# Altium integrated library Holtek Semiconductor Memory.IntLib: 31 symbols
Pins are listed as number, name and electrical type; pins without a type are passive.

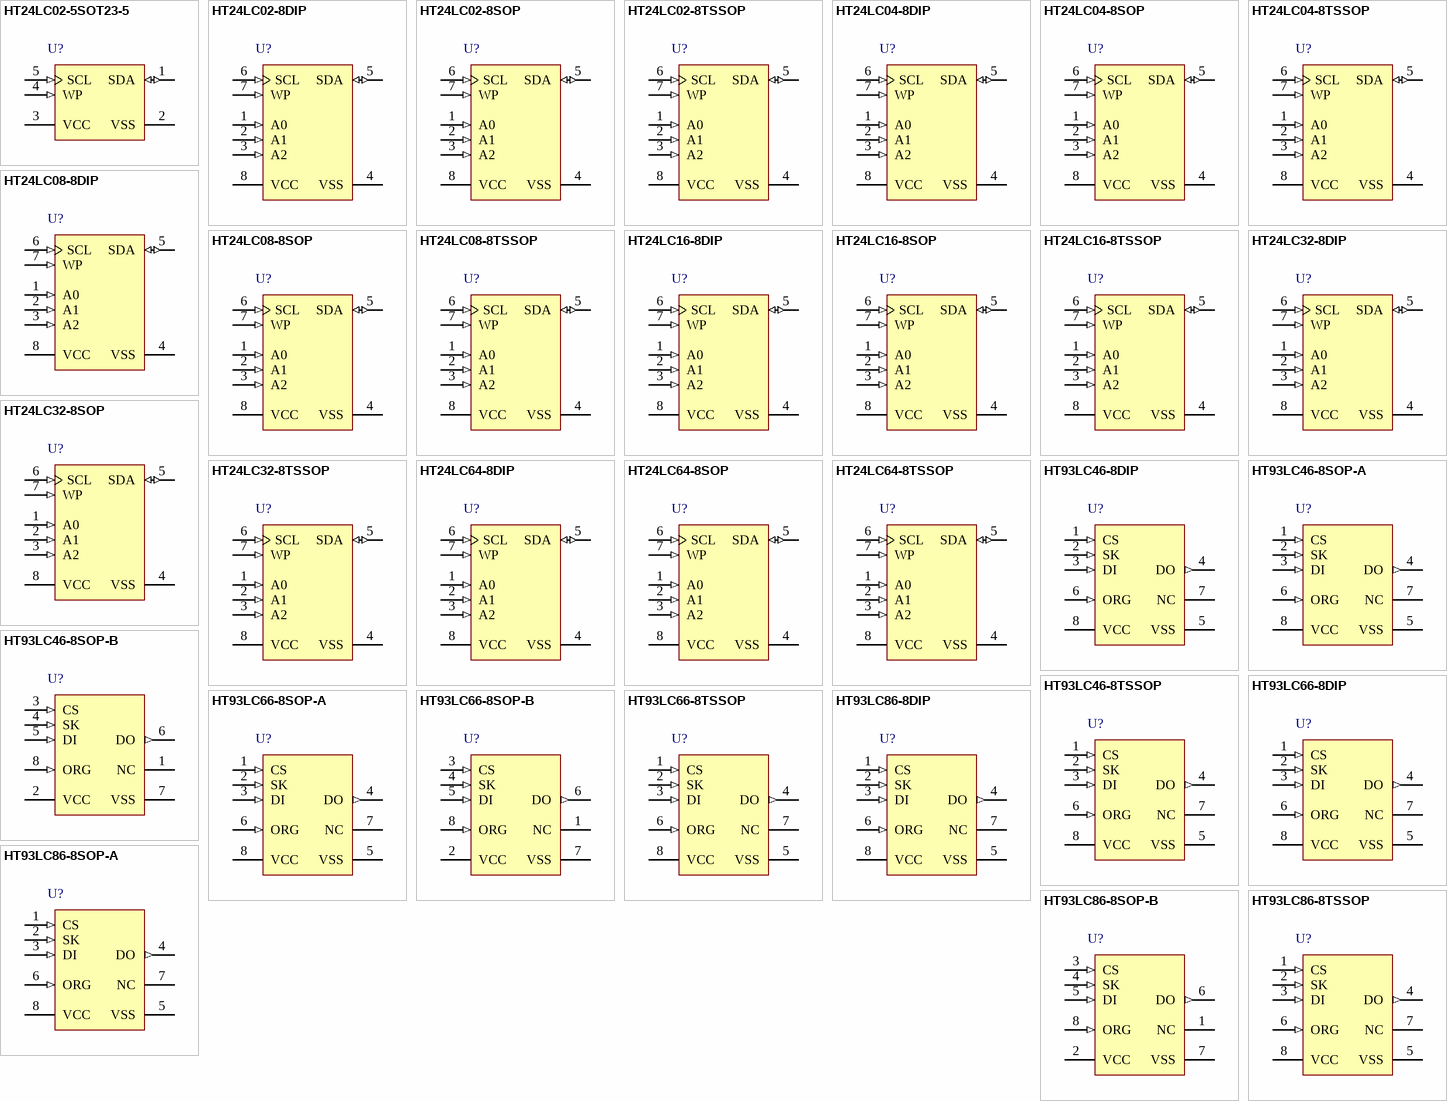
[diagram p0: symbols HT24LC02-5SOT23-5 to HT93LC86-8TSSOP]

## HT24LC02-5SOT23-5
designator U?
CMOS 2K 2-Wire Serial EEPROM, 5-Pin SOT23; DatasheetVersion: Rev1.7, May-2010; PackageVersion: 25/05/2010; PackageReference: SOT23-5; PackageDescription: 5-Pin SOT-23 Package 0.95 mm Pitch, 2.8 mm Lead Span; Code_IPC: SOT23-5; ComponentLink1Description: Manufacturer URL; ComponentLink1URL: http://www.holtek.com/; ComponentLink2Description: Datasheet; ComponentLink2URL: http://www.holtek.com/pdf/memory/24lc02v170.pdf; ComponentLink3Description: Package Specification; ComponentLink3URL: http://www.holtek.com/english/literature/package.pdf
footprint SOT23-5_N (SOT23, 5-Leads, Body 2.9x1.6mm, Pitch 0.95mm, Lead Span 2.8mm, IPC Medium Density)
footprint SOT23-5_L (SOT23, 5-Leads, Body 2.9x1.6mm, Pitch 0.95mm, Lead Span 2.8mm, IPC High Density)
footprint SOT23-5_M (SOT23, 5-Leads, Body 2.9x1.6mm, Pitch 0.95mm, Lead Span 2.8mm, IPC Low Density)
pins: 1 SDA (io), 2 VSS (power), 3 VCC (power), 4 WP (in), 5 SCL (in)

## HT24LC02-8DIP
designator U?
CMOS 2K 2-Wire Serial EEPROM, 8-Pin DIP; DatasheetVersion: Rev1.7, May-2010; PackageVersion: 25/05/2010; PackageReference: 8DIP; PackageDescription: 8-Pin, Dual In-line Package, 300mil Width, Pitch 2.54 mm; ComponentLink1Description: Manufacturer URL; ComponentLink1URL: http://www.holtek.com/; ComponentLink2Description: Datasheet; ComponentLink2URL: http://www.holtek.com/pdf/memory/24lc02v170.pdf; ComponentLink3Description: Package Specification; ComponentLink3URL: http://www.holtek.com/english/literature/package.pdf
footprint 8DIP (DIP, 8-Leads, Row Spacing 7.62mm, Pitch 2.54mm, Body 9.3x6.4mm)
pins: 1 A0 (in), 2 A1 (in), 3 A2 (in), 4 VSS (power), 5 SDA (io), 6 SCL (in), 7 WP (in), 8 VCC (power)

## HT24LC02-8SOP
designator U?
CMOS 2K 2-Wire Serial EEPROM, 8-Pin SOP; DatasheetVersion: Rev1.7, May-2010; PackageVersion: 25/05/2010; PackageReference: 8SOP; PackageDescription: 8-Pin Small Outline Package, 150mil Wide, 1.27 mm Pitch; Code_JEDEC: MS-012; Code_IPC: SOIC127P600-8; ComponentLink1Description: Manufacturer URL; ComponentLink1URL: http://www.holtek.com/; ComponentLink2Description: Datasheet; ComponentLink2URL: http://www.holtek.com/pdf/memory/24lc02v170.pdf; ComponentLink3Description: Package Specification; ComponentLink3URL: http://www.holtek.com/english/literature/package.pdf
footprint 8SOP_N (SOIC, 8-Leads, Body 4.9x3.9mm, Pitch 1.27mm, IPC Medium Density)
footprint 8SOP_L (SOIC, 8-Leads, Body 4.9x3.9mm, Pitch 1.27mm, IPC High Density)
footprint 8SOP_M (SOIC, 8-Leads, Body 4.9x3.9mm, Pitch 1.27mm, IPC Low Density)
pins: 1 A0 (in), 2 A1 (in), 3 A2 (in), 4 VSS (power), 5 SDA (io), 6 SCL (in), 7 WP (in), 8 VCC (power)

## HT24LC02-8TSSOP
designator U?
CMOS 2K 2-Wire Serial EEPROM, 8-Pin TSSOP; DatasheetVersion: Rev1.7, May-2010; PackageVersion: 25/05/2010; PackageReference: 8TSSOP; PackageDescription: 8-Pin Thin Shrink Small Outline Package 0.65 mm Pitch; ComponentLink1Description: Manufacturer URL; ComponentLink1URL: http://www.holtek.com/; ComponentLink2Description: Datasheet; ComponentLink2URL: http://www.holtek.com/pdf/memory/24lc02v170.pdf; ComponentLink3Description: Package Specification; ComponentLink3URL: http://www.holtek.com/english/literature/package.pdf
footprint 8TSSOP_N (TSOP, 8-Leads, Body 3x4.4mm, Pitch 0.65mm, IPC Medium Density)
footprint 8TSSOP_L (TSOP, 8-Leads, Body 3x4.4mm, Pitch 0.65mm, IPC High Density)
footprint 8TSSOP_M (TSOP, 8-Leads, Body 3x4.4mm, Pitch 0.65mm, IPC Low Density)
pins: 1 A0 (in), 2 A1 (in), 3 A2 (in), 4 VSS (power), 5 SDA (io), 6 SCL (in), 7 WP (in), 8 VCC (power)

## HT24LC04-8DIP
designator U?
CMOS 4K 2-Wire Serial EEPROM, 8-Pin DIP; DatasheetVersion: Rev1.7, June-2010; PackageVersion: 25/05/2010; PackageReference: 8DIP; PackageDescription: 8-Pin, Dual In-line Package, 300mil Width, Pitch 2.54 mm; ComponentLink1Description: Manufacturer URL; ComponentLink1URL: http://www.holtek.com/; ComponentLink2Description: Datasheet; ComponentLink2URL: http://www.holtek.com/pdf/memory/24lc04v170.pdf; ComponentLink3Description: Package Specification; ComponentLink3URL: http://www.holtek.com/english/literature/package.pdf
footprint 8DIP (DIP, 8-Leads, Row Spacing 7.62mm, Pitch 2.54mm, Body 9.3x6.4mm)
pins: 1 A0 (in), 2 A1 (in), 3 A2 (in), 4 VSS (power), 5 SDA (io), 6 SCL (in), 7 WP (in), 8 VCC (power)

## HT24LC04-8SOP
designator U?
CMOS 4K 2-Wire Serial EEPROM, 8-Pin SOP; DatasheetVersion: Rev1.7, June-2010; PackageVersion: 25/05/2010; PackageReference: 8SOP; PackageDescription: 8-Pin Small Outline Package, 150mil Wide, 1.27 mm Pitch; Code_JEDEC: MS-012; Code_IPC: SOIC127P600-8; ComponentLink1Description: Manufacturer URL; ComponentLink1URL: http://www.holtek.com/; ComponentLink2Description: Datasheet; ComponentLink2URL: http://www.holtek.com/pdf/memory/24lc04v170.pdf; ComponentLink3Description: Package Specification; ComponentLink3URL: http://www.holtek.com/english/literature/package.pdf
footprint 8SOP_N (SOIC, 8-Leads, Body 4.9x3.9mm, Pitch 1.27mm, IPC Medium Density)
footprint 8SOP_L (SOIC, 8-Leads, Body 4.9x3.9mm, Pitch 1.27mm, IPC High Density)
footprint 8SOP_M (SOIC, 8-Leads, Body 4.9x3.9mm, Pitch 1.27mm, IPC Low Density)
pins: 1 A0 (in), 2 A1 (in), 3 A2 (in), 4 VSS (power), 5 SDA (io), 6 SCL (in), 7 WP (in), 8 VCC (power)

## HT24LC04-8TSSOP
designator U?
CMOS 4K 2-Wire Serial EEPROM, 8-Pin TSSOP; DatasheetVersion: Rev1.7, June-2010; PackageVersion: 25/05/2010; PackageReference: 8TSSOP; PackageDescription: 8-Pin Thin Shrink Small Outline Package 0.65 mm Pitch; ComponentLink1Description: Manufacturer URL; ComponentLink1URL: http://www.holtek.com/; ComponentLink2Description: Datasheet; ComponentLink2URL: http://www.holtek.com/pdf/memory/24lc04v170.pdf; ComponentLink3Description: Package Specification; ComponentLink3URL: http://www.holtek.com/english/literature/package.pdf
footprint 8TSSOP_N (TSOP, 8-Leads, Body 3x4.4mm, Pitch 0.65mm, IPC Medium Density)
footprint 8TSSOP_L (TSOP, 8-Leads, Body 3x4.4mm, Pitch 0.65mm, IPC High Density)
footprint 8TSSOP_M (TSOP, 8-Leads, Body 3x4.4mm, Pitch 0.65mm, IPC Low Density)
pins: 1 A0 (in), 2 A1 (in), 3 A2 (in), 4 VSS (power), 5 SDA (io), 6 SCL (in), 7 WP (in), 8 VCC (power)

## HT24LC08-8DIP
designator U?
CMOS 8K 2-Wire Serial EEPROM, 8-Pin DIP; DatasheetVersion: Rev1.7, June-2010; PackageVersion: 25/05/2010; PackageReference: 8DIP; PackageDescription: 8-Pin, Dual In-line Package, 300mil Width, Pitch 2.54 mm; ComponentLink1Description: Manufacturer URL; ComponentLink1URL: http://www.holtek.com/; ComponentLink2Description: Datasheet; ComponentLink2URL: http://www.holtek.com/pdf/memory/24lc08v170.pdf; ComponentLink3Description: Package Specification; ComponentLink3URL: http://www.holtek.com/english/literature/package.pdf
footprint 8DIP (DIP, 8-Leads, Row Spacing 7.62mm, Pitch 2.54mm, Body 9.3x6.4mm)
pins: 1 A0 (in), 2 A1 (in), 3 A2 (in), 4 VSS (power), 5 SDA (io), 6 SCL (in), 7 WP (in), 8 VCC (power)

## HT24LC08-8SOP
designator U?
CMOS 8K 2-Wire Serial EEPROM, 8-Pin SOP; DatasheetVersion: Rev1.7, June-2010; PackageVersion: 25/05/2010; PackageReference: 8SOP; PackageDescription: 8-Pin Small Outline Package, 150mil Wide, 1.27 mm Pitch; Code_JEDEC: MS-012; Code_IPC: SOIC127P600-8; ComponentLink1Description: Manufacturer URL; ComponentLink1URL: http://www.holtek.com/; ComponentLink2Description: Datasheet; ComponentLink2URL: http://www.holtek.com/pdf/memory/24lc08v170.pdf; ComponentLink3Description: Package Specification; ComponentLink3URL: http://www.holtek.com/english/literature/package.pdf
footprint 8SOP_N (SOIC, 8-Leads, Body 4.9x3.9mm, Pitch 1.27mm, IPC Medium Density)
footprint 8SOP_L (SOIC, 8-Leads, Body 4.9x3.9mm, Pitch 1.27mm, IPC High Density)
footprint 8SOP_M (SOIC, 8-Leads, Body 4.9x3.9mm, Pitch 1.27mm, IPC Low Density)
pins: 1 A0 (in), 2 A1 (in), 3 A2 (in), 4 VSS (power), 5 SDA (io), 6 SCL (in), 7 WP (in), 8 VCC (power)

## HT24LC08-8TSSOP
designator U?
CMOS 8K 2-Wire Serial EEPROM, 8-Pin TSSOP; DatasheetVersion: Rev1.7, June-2010; PackageVersion: 25/05/2010; PackageReference: 8TSSOP; PackageDescription: 8-Pin Thin Shrink Small Outline Package 0.65 mm Pitch; ComponentLink1Description: Manufacturer URL; ComponentLink1URL: http://www.holtek.com/; ComponentLink2Description: Datasheet; ComponentLink2URL: http://www.holtek.com/pdf/memory/24lc08v170.pdf; ComponentLink3Description: Package Specification; ComponentLink3URL: http://www.holtek.com/english/literature/package.pdf
footprint 8TSSOP_N (TSOP, 8-Leads, Body 3x4.4mm, Pitch 0.65mm, IPC Medium Density)
footprint 8TSSOP_L (TSOP, 8-Leads, Body 3x4.4mm, Pitch 0.65mm, IPC High Density)
footprint 8TSSOP_M (TSOP, 8-Leads, Body 3x4.4mm, Pitch 0.65mm, IPC Low Density)
pins: 1 A0 (in), 2 A1 (in), 3 A2 (in), 4 VSS (power), 5 SDA (io), 6 SCL (in), 7 WP (in), 8 VCC (power)

## HT24LC16-8DIP
designator U?
CMOS 16K 2-Wire Serial EEPROM, 8-Pin DIP; DatasheetVersion: Rev1.6, June-2010; PackageVersion: 25/05/2010; PackageReference: 8DIP; PackageDescription: 8-Pin, Dual In-line Package, 300mil Width, Pitch 2.54 mm; ComponentLink1Description: Manufacturer URL; ComponentLink1URL: http://www.holtek.com/; ComponentLink2Description: Datasheet; ComponentLink2URL: http://www.holtek.com/pdf/memory/24lc16v160.pdf; ComponentLink3Description: Package Specification; ComponentLink3URL: http://www.holtek.com/english/literature/package.pdf
footprint 8DIP (DIP, 8-Leads, Row Spacing 7.62mm, Pitch 2.54mm, Body 9.3x6.4mm)
pins: 1 A0 (in), 2 A1 (in), 3 A2 (in), 4 VSS (power), 5 SDA (io), 6 SCL (in), 7 WP (in), 8 VCC (power)

## HT24LC16-8SOP
designator U?
CMOS 16K 2-Wire Serial EEPROM, 8-Pin SOP; DatasheetVersion: Rev1.6, June-2010; PackageVersion: 25/05/2010; PackageReference: 8SOP; PackageDescription: 8-Pin Small Outline Package, 150mil Wide, 1.27 mm Pitch; Code_JEDEC: MS-012; Code_IPC: SOIC127P600-8; ComponentLink1Description: Manufacturer URL; ComponentLink1URL: http://www.holtek.com/; ComponentLink2Description: Datasheet; ComponentLink2URL: http://www.holtek.com/pdf/memory/24lc16v160.pdf; ComponentLink3Description: Package Specification; ComponentLink3URL: http://www.holtek.com/english/literature/package.pdf
footprint 8SOP_N (SOIC, 8-Leads, Body 4.9x3.9mm, Pitch 1.27mm, IPC Medium Density)
footprint 8SOP_L (SOIC, 8-Leads, Body 4.9x3.9mm, Pitch 1.27mm, IPC High Density)
footprint 8SOP_M (SOIC, 8-Leads, Body 4.9x3.9mm, Pitch 1.27mm, IPC Low Density)
pins: 1 A0 (in), 2 A1 (in), 3 A2 (in), 4 VSS (power), 5 SDA (io), 6 SCL (in), 7 WP (in), 8 VCC (power)

## HT24LC16-8TSSOP
designator U?
CMOS 16K 2-Wire Serial EEPROM, 8-Pin TSSOP; DatasheetVersion: Rev1.6, June-2010; PackageVersion: 25/05/2010; PackageReference: 8TSSOP; PackageDescription: 8-Pin Thin Shrink Small Outline Package 0.65 mm Pitch; ComponentLink1Description: Manufacturer URL; ComponentLink1URL: http://www.holtek.com/; ComponentLink2Description: Datasheet; ComponentLink2URL: http://www.holtek.com/pdf/memory/24lc16v160.pdf; ComponentLink3Description: Package Specification; ComponentLink3URL: http://www.holtek.com/english/literature/package.pdf
footprint 8TSSOP_N (TSOP, 8-Leads, Body 3x4.4mm, Pitch 0.65mm, IPC Medium Density)
footprint 8TSSOP_L (TSOP, 8-Leads, Body 3x4.4mm, Pitch 0.65mm, IPC High Density)
footprint 8TSSOP_M (TSOP, 8-Leads, Body 3x4.4mm, Pitch 0.65mm, IPC Low Density)
pins: 1 A0 (in), 2 A1 (in), 3 A2 (in), 4 VSS (power), 5 SDA (io), 6 SCL (in), 7 WP (in), 8 VCC (power)

## HT24LC32-8DIP
designator U?
CMOS 32K 2-Wire Serial EEPROM, 8-Pin DIP; DatasheetVersion: Rev1.3, June-2010; PackageVersion: 25/05/2010; PackageReference: 8DIP; PackageDescription: 8-Pin, Dual In-line Package, 300mil Width, Pitch 2.54 mm; ComponentLink1Description: Manufacturer URL; ComponentLink1URL: http://www.holtek.com/; ComponentLink2Description: Datasheet; ComponentLink2URL: http://www.holtek.com/pdf/memory/24lc32v130.pdf; ComponentLink3Description: Package Specification; ComponentLink3URL: http://www.holtek.com/english/literature/package.pdf
footprint 8DIP (DIP, 8-Leads, Row Spacing 7.62mm, Pitch 2.54mm, Body 9.3x6.4mm)
pins: 1 A0 (in), 2 A1 (in), 3 A2 (in), 4 VSS (power), 5 SDA (io), 6 SCL (in), 7 WP (in), 8 VCC (power)

## HT24LC32-8SOP
designator U?
CMOS 32K 2-Wire Serial EEPROM, 8-Pin SOP; DatasheetVersion: Rev1.3, June-2010; PackageVersion: 25/05/2010; PackageReference: 8SOP; PackageDescription: 8-Pin Small Outline Package, 150mil Wide, 1.27 mm Pitch; Code_JEDEC: MS-012; Code_IPC: SOIC127P600-8; ComponentLink1Description: Manufacturer URL; ComponentLink1URL: http://www.holtek.com/; ComponentLink2Description: Datasheet; ComponentLink2URL: http://www.holtek.com/pdf/memory/24lc32v130.pdf; ComponentLink3Description: Package Specification; ComponentLink3URL: http://www.holtek.com/english/literature/package.pdf
footprint 8SOP_N (SOIC, 8-Leads, Body 4.9x3.9mm, Pitch 1.27mm, IPC Medium Density)
footprint 8SOP_L (SOIC, 8-Leads, Body 4.9x3.9mm, Pitch 1.27mm, IPC High Density)
footprint 8SOP_M (SOIC, 8-Leads, Body 4.9x3.9mm, Pitch 1.27mm, IPC Low Density)
pins: 1 A0 (in), 2 A1 (in), 3 A2 (in), 4 VSS (power), 5 SDA (io), 6 SCL (in), 7 WP (in), 8 VCC (power)

## HT24LC32-8TSSOP
designator U?
CMOS 32K 2-Wire Serial EEPROM, 8-Pin TSSOP; DatasheetVersion: Rev1.3, June-2010; PackageVersion: 25/05/2010; PackageReference: 8TSSOP; PackageDescription: 8-Pin Thin Shrink Small Outline Package 0.65 mm Pitch; ComponentLink1Description: Manufacturer URL; ComponentLink1URL: http://www.holtek.com/; ComponentLink2Description: Datasheet; ComponentLink2URL: http://www.holtek.com/pdf/memory/24lc32v130.pdf; ComponentLink3Description: Package Specification; ComponentLink3URL: http://www.holtek.com/english/literature/package.pdf
footprint 8TSSOP_N (TSOP, 8-Leads, Body 3x4.4mm, Pitch 0.65mm, IPC Medium Density)
footprint 8TSSOP_L (TSOP, 8-Leads, Body 3x4.4mm, Pitch 0.65mm, IPC High Density)
footprint 8TSSOP_M (TSOP, 8-Leads, Body 3x4.4mm, Pitch 0.65mm, IPC Low Density)
pins: 1 A0 (in), 2 A1 (in), 3 A2 (in), 4 VSS (power), 5 SDA (io), 6 SCL (in), 7 WP (in), 8 VCC (power)

## HT24LC64-8DIP
designator U?
CMOS 64K 2-Wire Serial EEPROM, 8-Pin DIP; DatasheetVersion: Rev1.4, June-2010; PackageVersion: 25/05/2010; PackageReference: 8DIP; PackageDescription: 8-Pin, Dual In-line Package, 300mil Width, Pitch 2.54 mm; ComponentLink1Description: Manufacturer URL; ComponentLink1URL: http://www.holtek.com/; ComponentLink2Description: Datasheet; ComponentLink2URL: http://www.holtek.com/pdf/memory/24lc64v140.pdf; ComponentLink3Description: Package Specification; ComponentLink3URL: http://www.holtek.com/english/literature/package.pdf
footprint 8DIP (DIP, 8-Leads, Row Spacing 7.62mm, Pitch 2.54mm, Body 9.3x6.4mm)
pins: 1 A0 (in), 2 A1 (in), 3 A2 (in), 4 VSS (power), 5 SDA (io), 6 SCL (in), 7 WP (in), 8 VCC (power)

## HT24LC64-8SOP
designator U?
CMOS 64K 2-Wire Serial EEPROM, 8-Pin SOP; DatasheetVersion: Rev1.4, June-2010; PackageVersion: 25/05/2010; PackageReference: 8SOP; PackageDescription: 8-Pin Small Outline Package, 150mil Wide, 1.27 mm Pitch; Code_JEDEC: MS-012; Code_IPC: SOIC127P600-8; ComponentLink1Description: Manufacturer URL; ComponentLink1URL: http://www.holtek.com/; ComponentLink2Description: Datasheet; ComponentLink2URL: http://www.holtek.com/pdf/memory/24lc64v140.pdf; ComponentLink3Description: Package Specification; ComponentLink3URL: http://www.holtek.com/english/literature/package.pdf
footprint 8SOP_N (SOIC, 8-Leads, Body 4.9x3.9mm, Pitch 1.27mm, IPC Medium Density)
footprint 8SOP_L (SOIC, 8-Leads, Body 4.9x3.9mm, Pitch 1.27mm, IPC High Density)
footprint 8SOP_M (SOIC, 8-Leads, Body 4.9x3.9mm, Pitch 1.27mm, IPC Low Density)
pins: 1 A0 (in), 2 A1 (in), 3 A2 (in), 4 VSS (power), 5 SDA (io), 6 SCL (in), 7 WP (in), 8 VCC (power)

## HT24LC64-8TSSOP
designator U?
CMOS 64K 2-Wire Serial EEPROM, 8-Pin TSSOP; DatasheetVersion: Rev1.4, June-2010; PackageVersion: 25/05/2010; PackageReference: 8TSSOP; PackageDescription: 8-Pin Thin Shrink Small Outline Package 0.65 mm Pitch; ComponentLink1Description: Manufacturer URL; ComponentLink1URL: http://www.holtek.com/; ComponentLink2Description: Datasheet; ComponentLink2URL: http://www.holtek.com/pdf/memory/24lc64v140.pdf; ComponentLink3Description: Package Specification; ComponentLink3URL: http://www.holtek.com/english/literature/package.pdf
footprint 8TSSOP_N (TSOP, 8-Leads, Body 3x4.4mm, Pitch 0.65mm, IPC Medium Density)
footprint 8TSSOP_L (TSOP, 8-Leads, Body 3x4.4mm, Pitch 0.65mm, IPC High Density)
footprint 8TSSOP_M (TSOP, 8-Leads, Body 3x4.4mm, Pitch 0.65mm, IPC Low Density)
pins: 1 A0 (in), 2 A1 (in), 3 A2 (in), 4 VSS (power), 5 SDA (io), 6 SCL (in), 7 WP (in), 8 VCC (power)

## HT93LC46-8DIP
designator U?
CMOS 1K 3-Wire Serial EEPROM, 8-Pin DIP; DatasheetVersion: Rev2.0, May-2010; PackageVersion: 25/05/2010; PackageReference: 8DIP; PackageDescription: 8-Pin, Dual In-line Package, 300mil Width, Pitch 2.54 mm; ComponentLink1Description: Manufacturer URL; ComponentLink1URL: http://www.holtek.com/; ComponentLink2Description: Datasheet; ComponentLink2URL: http://www.holtek.com/pdf/memory/93lc46v200.pdf; ComponentLink3Description: Package Specification; ComponentLink3URL: http://www.holtek.com/english/literature/package.pdf
footprint 8DIP (DIP, 8-Leads, Row Spacing 7.62mm, Pitch 2.54mm, Body 9.3x6.4mm)
pins: 1 CS (in), 2 SK (in), 3 DI (in), 4 DO (out), 5 VSS (power), 6 ORG (in), 7 NC, 8 VCC (power)

## HT93LC46-8SOP-A
designator U?
CMOS 1K 3-Wire Serial EEPROM, 8-Pin SOP-A; DatasheetVersion: Rev2.0, May-2010; PackageVersion: 25/05/2010; PackageReference: 8SOP; PackageDescription: 8-Pin Small Outline Package, 150mil Wide, 1.27 mm Pitch; Code_JEDEC: MS-012; Code_IPC: SOIC127P600-8; ComponentLink1Description: Manufacturer URL; ComponentLink1URL: http://www.holtek.com/; ComponentLink2Description: Datasheet; ComponentLink2URL: http://www.holtek.com/pdf/memory/93lc46v200.pdf; ComponentLink3Description: Package Specification; ComponentLink3URL: http://www.holtek.com/english/literature/package.pdf
footprint 8SOP_N (SOIC, 8-Leads, Body 4.9x3.9mm, Pitch 1.27mm, IPC Medium Density)
footprint 8SOP_L (SOIC, 8-Leads, Body 4.9x3.9mm, Pitch 1.27mm, IPC High Density)
footprint 8SOP_M (SOIC, 8-Leads, Body 4.9x3.9mm, Pitch 1.27mm, IPC Low Density)
pins: 1 CS (in), 2 SK (in), 3 DI (in), 4 DO (out), 5 VSS (power), 6 ORG (in), 7 NC, 8 VCC (power)

## HT93LC46-8SOP-B
designator U?
CMOS 1K 3-Wire Serial EEPROM, 8-Pin SOP-B; DatasheetVersion: Rev2.0, May-2010; PackageVersion: 25/05/2010; PackageReference: 8SOP; PackageDescription: 8-Pin Small Outline Package, 150mil Wide, 1.27 mm Pitch; Code_JEDEC: MS-012; Code_IPC: SOIC127P600-8; ComponentLink1Description: Manufacturer URL; ComponentLink1URL: http://www.holtek.com/; ComponentLink2Description: Datasheet; ComponentLink2URL: http://www.holtek.com/pdf/memory/93lc46v200.pdf; ComponentLink3Description: Package Specification; ComponentLink3URL: http://www.holtek.com/english/literature/package.pdf
footprint 8SOP_N (SOIC, 8-Leads, Body 4.9x3.9mm, Pitch 1.27mm, IPC Medium Density)
footprint 8SOP_L (SOIC, 8-Leads, Body 4.9x3.9mm, Pitch 1.27mm, IPC High Density)
footprint 8SOP_M (SOIC, 8-Leads, Body 4.9x3.9mm, Pitch 1.27mm, IPC Low Density)
pins: 1 NC, 2 VCC (power), 3 CS (in), 4 SK (in), 5 DI (in), 6 DO (out), 7 VSS (power), 8 ORG (in)

## HT93LC46-8TSSOP
designator U?
CMOS 1K 3-Wire Serial EEPROM, 8-Pin TSSOP; DatasheetVersion: Rev2.0, May-2010; PackageVersion: 25/05/2010; PackageReference: 8TSSOP; PackageDescription: 8-Pin Thin Shrink Small Outline Package 0.65 mm Pitch; ComponentLink1Description: Manufacturer URL; ComponentLink1URL: http://www.holtek.com/; ComponentLink2Description: Datasheet; ComponentLink2URL: http://www.holtek.com/pdf/memory/93lc46v200.pdf; ComponentLink3Description: Package Specification; ComponentLink3URL: http://www.holtek.com/english/literature/package.pdf
footprint 8TSSOP_N (TSOP, 8-Leads, Body 3x4.4mm, Pitch 0.65mm, IPC Medium Density)
footprint 8TSSOP_L (TSOP, 8-Leads, Body 3x4.4mm, Pitch 0.65mm, IPC High Density)
footprint 8TSSOP_M (TSOP, 8-Leads, Body 3x4.4mm, Pitch 0.65mm, IPC Low Density)
pins: 1 CS (in), 2 SK (in), 3 DI (in), 4 DO (out), 5 VSS (power), 6 ORG (in), 7 NC, 8 VCC (power)

## HT93LC66-8DIP
designator U?
CMOS 4K 3-Wire Serial EEPROM, 8-Pin DIP; DatasheetVersion: Rev1.8, June-2010; PackageVersion: 25/05/2010; PackageReference: 8DIP; PackageDescription: 8-Pin, Dual In-line Package, 300mil Width, Pitch 2.54 mm; ComponentLink1Description: Manufacturer URL; ComponentLink1URL: http://www.holtek.com/; ComponentLink2Description: Datasheet; ComponentLink2URL: http://www.holtek.com/pdf/memory/93lc66v180.pdf; ComponentLink3Description: Package Specification; ComponentLink3URL: http://www.holtek.com/english/literature/package.pdf
footprint 8DIP (DIP, 8-Leads, Row Spacing 7.62mm, Pitch 2.54mm, Body 9.3x6.4mm)
pins: 1 CS (in), 2 SK (in), 3 DI (in), 4 DO (out), 5 VSS (power), 6 ORG (in), 7 NC, 8 VCC (power)

## HT93LC66-8SOP-A
designator U?
CMOS 4K 3-Wire Serial EEPROM, 8-Pin SOP-A; DatasheetVersion: Rev1.8, June-2010; PackageVersion: 25/05/2010; PackageReference: 8SOP; PackageDescription: 8-Pin Small Outline Package, 150mil Wide, 1.27 mm Pitch; Code_JEDEC: MS-012; Code_IPC: SOIC127P600-8; ComponentLink1Description: Manufacturer URL; ComponentLink1URL: http://www.holtek.com/; ComponentLink2Description: Datasheet; ComponentLink2URL: http://www.holtek.com/pdf/memory/93lc66v180.pdf; ComponentLink3Description: Package Specification; ComponentLink3URL: http://www.holtek.com/english/literature/package.pdf
footprint 8SOP_N (SOIC, 8-Leads, Body 4.9x3.9mm, Pitch 1.27mm, IPC Medium Density)
footprint 8SOP_L (SOIC, 8-Leads, Body 4.9x3.9mm, Pitch 1.27mm, IPC High Density)
footprint 8SOP_M (SOIC, 8-Leads, Body 4.9x3.9mm, Pitch 1.27mm, IPC Low Density)
pins: 1 CS (in), 2 SK (in), 3 DI (in), 4 DO (out), 5 VSS (power), 6 ORG (in), 7 NC, 8 VCC (power)

## HT93LC66-8SOP-B
designator U?
CMOS 4K 3-Wire Serial EEPROM, 8-Pin SOP-B; DatasheetVersion: Rev1.8, June-2010; PackageVersion: 25/05/2010; PackageReference: 8SOP; PackageDescription: 8-Pin Small Outline Package, 150mil Wide, 1.27 mm Pitch; Code_JEDEC: MS-012; Code_IPC: SOIC127P600-8; ComponentLink1Description: Manufacturer URL; ComponentLink1URL: http://www.holtek.com/; ComponentLink2Description: Datasheet; ComponentLink2URL: http://www.holtek.com/pdf/memory/93lc66v180.pdf; ComponentLink3Description: Package Specification; ComponentLink3URL: http://www.holtek.com/english/literature/package.pdf
footprint 8SOP_N (SOIC, 8-Leads, Body 4.9x3.9mm, Pitch 1.27mm, IPC Medium Density)
footprint 8SOP_L (SOIC, 8-Leads, Body 4.9x3.9mm, Pitch 1.27mm, IPC High Density)
footprint 8SOP_M (SOIC, 8-Leads, Body 4.9x3.9mm, Pitch 1.27mm, IPC Low Density)
pins: 1 NC, 2 VCC (power), 3 CS (in), 4 SK (in), 5 DI (in), 6 DO (out), 7 VSS (power), 8 ORG (in)

## HT93LC66-8TSSOP
designator U?
CMOS 4K 3-Wire Serial EEPROM, 8-Pin TSSOP; DatasheetVersion: Rev1.8, June-2010; PackageVersion: 25/05/2010; PackageReference: 8TSSOP; PackageDescription: 8-Pin Thin Shrink Small Outline Package 0.65 mm Pitch; ComponentLink1Description: Manufacturer URL; ComponentLink1URL: http://www.holtek.com/; ComponentLink2Description: Datasheet; ComponentLink2URL: http://www.holtek.com/pdf/memory/93lc66v180.pdf; ComponentLink3Description: Package Specification; ComponentLink3URL: http://www.holtek.com/english/literature/package.pdf
footprint 8TSSOP_N (TSOP, 8-Leads, Body 3x4.4mm, Pitch 0.65mm, IPC Medium Density)
footprint 8TSSOP_L (TSOP, 8-Leads, Body 3x4.4mm, Pitch 0.65mm, IPC High Density)
footprint 8TSSOP_M (TSOP, 8-Leads, Body 3x4.4mm, Pitch 0.65mm, IPC Low Density)
pins: 1 CS (in), 2 SK (in), 3 DI (in), 4 DO (out), 5 VSS (power), 6 ORG (in), 7 NC, 8 VCC (power)

## HT93LC86-8DIP
designator U?
CMOS 16K 3-Wire Serial EEPROM, 8-Pin DIP; DatasheetVersion: Rev1.5, June-2010; PackageVersion: 25/05/2010; PackageReference: 8DIP; PackageDescription: 8-Pin, Dual In-line Package, 300mil Width, Pitch 2.54 mm; ComponentLink1Description: Manufacturer URL; ComponentLink1URL: http://www.holtek.com/; ComponentLink2Description: Datasheet; ComponentLink2URL: http://www.holtek.com/pdf/memory/93lc86v150.pdf; ComponentLink3Description: Package Specification; ComponentLink3URL: http://www.holtek.com/english/literature/package.pdf
footprint 8DIP (DIP, 8-Leads, Row Spacing 7.62mm, Pitch 2.54mm, Body 9.3x6.4mm)
pins: 1 CS (in), 2 SK (in), 3 DI (in), 4 DO (out), 5 VSS (power), 6 ORG (in), 7 NC, 8 VCC (power)

## HT93LC86-8SOP-A
designator U?
CMOS 16K 3-Wire Serial EEPROM, 8-Pin SOP-A; DatasheetVersion: Rev1.5, June-2010; PackageVersion: 25/05/2010; PackageReference: 8SOP; PackageDescription: 8-Pin Small Outline Package, 150mil Wide, 1.27 mm Pitch; Code_JEDEC: MS-012; Code_IPC: SOIC127P600-8; ComponentLink1Description: Manufacturer URL; ComponentLink1URL: http://www.holtek.com/; ComponentLink2Description: Datasheet; ComponentLink2URL: http://www.holtek.com/pdf/memory/93lc86v150.pdf; ComponentLink3Description: Package Specification; ComponentLink3URL: http://www.holtek.com/english/literature/package.pdf
footprint 8SOP_N (SOIC, 8-Leads, Body 4.9x3.9mm, Pitch 1.27mm, IPC Medium Density)
footprint 8SOP_L (SOIC, 8-Leads, Body 4.9x3.9mm, Pitch 1.27mm, IPC High Density)
footprint 8SOP_M (SOIC, 8-Leads, Body 4.9x3.9mm, Pitch 1.27mm, IPC Low Density)
pins: 1 CS (in), 2 SK (in), 3 DI (in), 4 DO (out), 5 VSS (power), 6 ORG (in), 7 NC, 8 VCC (power)

## HT93LC86-8SOP-B
designator U?
CMOS 16K 3-Wire Serial EEPROM, 8-Pin SOP-B; DatasheetVersion: Rev1.5, June-2010; PackageVersion: 25/05/2010; PackageReference: 8SOP; PackageDescription: 8-Pin Small Outline Package, 150mil Wide, 1.27 mm Pitch; Code_JEDEC: MS-012; Code_IPC: SOIC127P600-8; ComponentLink1Description: Manufacturer URL; ComponentLink1URL: http://www.holtek.com/; ComponentLink2Description: Datasheet; ComponentLink2URL: http://www.holtek.com/pdf/memory/93lc86v150.pdf; ComponentLink3Description: Package Specification; ComponentLink3URL: http://www.holtek.com/english/literature/package.pdf
footprint 8SOP_N (SOIC, 8-Leads, Body 4.9x3.9mm, Pitch 1.27mm, IPC Medium Density)
footprint 8SOP_L (SOIC, 8-Leads, Body 4.9x3.9mm, Pitch 1.27mm, IPC High Density)
footprint 8SOP_M (SOIC, 8-Leads, Body 4.9x3.9mm, Pitch 1.27mm, IPC Low Density)
pins: 1 NC, 2 VCC (power), 3 CS (in), 4 SK (in), 5 DI (in), 6 DO (out), 7 VSS (power), 8 ORG (in)

## HT93LC86-8TSSOP
designator U?
CMOS 16K 3-Wire Serial EEPROM, 8-Pin TSSOP; DatasheetVersion: Rev1.5, June-2010; PackageVersion: 25/05/2010; PackageReference: 8TSSOP; PackageDescription: 8-Pin Thin Shrink Small Outline Package 0.65 mm Pitch; ComponentLink1Description: Manufacturer URL; ComponentLink1URL: http://www.holtek.com/; ComponentLink2Description: Datasheet; ComponentLink2URL: http://www.holtek.com/pdf/memory/93lc86v150.pdf; ComponentLink3Description: Package Specification; ComponentLink3URL: http://www.holtek.com/english/literature/package.pdf
footprint 8TSSOP_N (TSOP, 8-Leads, Body 3x4.4mm, Pitch 0.65mm, IPC Medium Density)
footprint 8TSSOP_L (TSOP, 8-Leads, Body 3x4.4mm, Pitch 0.65mm, IPC High Density)
footprint 8TSSOP_M (TSOP, 8-Leads, Body 3x4.4mm, Pitch 0.65mm, IPC Low Density)
pins: 1 CS (in), 2 SK (in), 3 DI (in), 4 DO (out), 5 VSS (power), 6 ORG (in), 7 NC, 8 VCC (power)